# EAGLE library part MINI-DIN8 (library 07-Retrocomputing)
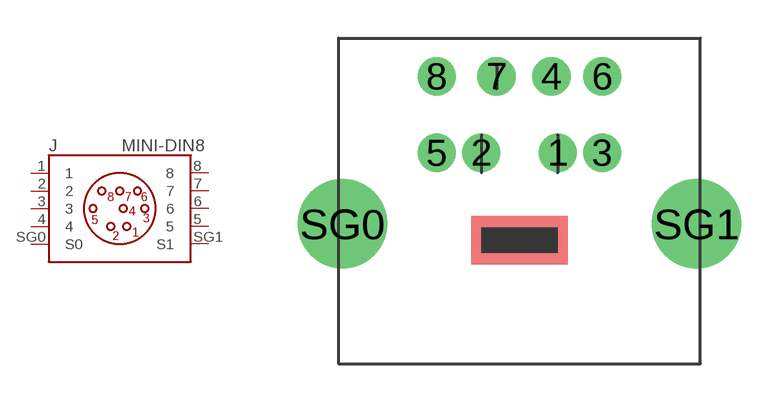
[diagram p23: symbol with the pads of MINI_DIN8; footprint MINI_DIN8]

Designator prefix J

## MINI-DIN8  [MINI_DIN8]
1  1
2  2
3  3
4  4
5  5
6  6
7  7
8  8
SG0  S0
SG1  S1

## Footprint MINI_DIN8 (pad centres in mm)
drill 1 round: 1 1.5,8.3; 2 -1.5,8.3; 3 3.25,8.3; 4 1.25,11.3; 5 -3.25,8.3; 6 3.25,11.3; 7 -0.9,11.3; 8 -3.25,11.3
drill 2.5 round: SG0 -6.95,5.5; SG1 6.95,5.5